# EAGLE library part AM26S10 (library dec-con)
Bus Transceiver
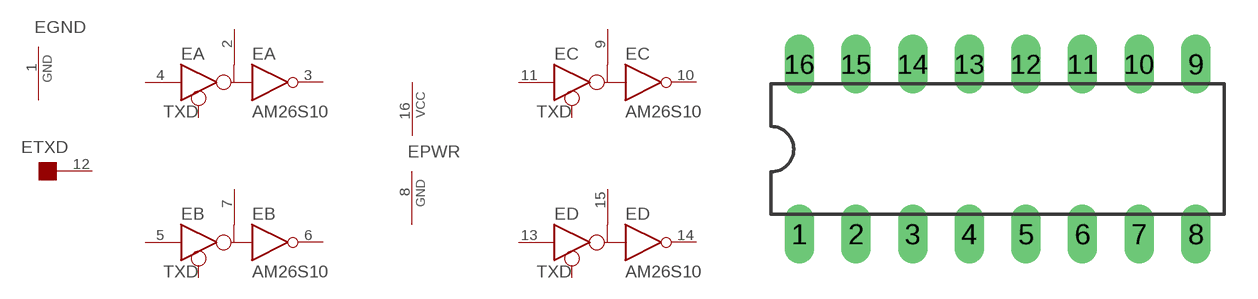
[diagram p16: symbol with the pads of DIL16; footprint DIL16]

Designator prefix E; gates PWR=PWRN TXD=2610TXD A=2610B B=2610B C=2610B D=2610B GND=GND

## AM26S10  [DIL16]
1  GND:GND  pwr
2  A:B
3  A:R  out
4  A:D  in
5  B:D  in
6  B:R  out
7  B:B
8  PWR:GND  pwr
9  C:B
10  C:R  out
11  C:D  in
12  TXD:TXD  in
13  D:D  in
14  D:R  out
15  D:B
16  PWR:VCC  pwr

## Footprint DIL16 (pad centres in mm)
Dual In Line Package
drill 0.813 long: 1 -8.89,-3.81; 2 -6.35,-3.81; 3 -3.81,-3.81; 4 -1.27,-3.81; 5 1.27,-3.81; 6 3.81,-3.81; 7 6.35,-3.81; 8 8.89,-3.81; 9 8.89,3.81; 10 6.35,3.81; 11 3.81,3.81; 12 1.27,3.81; 13 -1.27,3.81; 14 -3.81,3.81; 15 -6.35,3.81; 16 -8.89,3.81